# EAGLE library part G5V-2 (library takeyama)
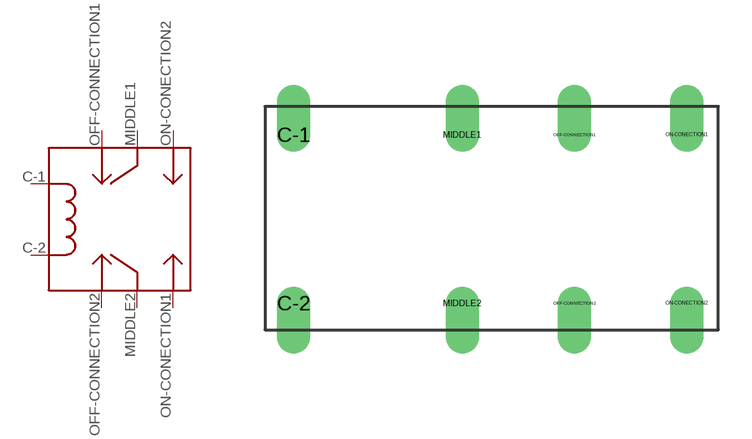
[diagram p14: symbol with the pads of G5-2; footprint G5-2]

Designator prefix -

## G5V-2  [G5-2]
C-1  C-1
C-2  C-2
MIDDLE1  MIDDLE1
MIDDLE2  MIDDLE2
OFF-CONNECTION1  OFF-CONECT1
OFF-CONNECTION2  OFF-CONECT2
ON-CONECTION1  ON-CONEC2
ON-CONECTION2  ON-CONECT1

## Footprint G5-2 (pad centres in mm)
drill 1 offset: C-1 0,7.62; C-2 0,0; MIDDLE1 7.62,7.62; MIDDLE2 7.62,0; OFF-CONNECTION1 12.7,7.62; OFF-CONNECTION2 12.7,0; ON-CONECTION1 17.78,7.62; ON-CONECTION2 17.78,0